# Altium schematic symbol library Oki.SchLib: 1 symbol
Pins are listed as number, name and electrical type; pins without a type are passive.

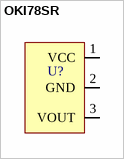
[diagram p0: symbol OKI78SR]

## OKI78SR
designator U?  (value not drawn)
Regulator DC-DC 3.3V 1.5A; Digi-Key Part Number: 811-2196-5-ND
footprint OKI78SR (Regulator DC-DC 3.3V 1.5A)
footprint OKI78SRE (DC-DC Converter Right-Angle)
pins: 1 VCC, 2 GND, 3 VOUT